# EAGLE library part 418217270904 (library Wurth_Elektronik_Electromechanic_Switch_rev17b)
WS-RA 2.54 mm right angled compact THT Dip Switch with raised actuator, 4 Pole
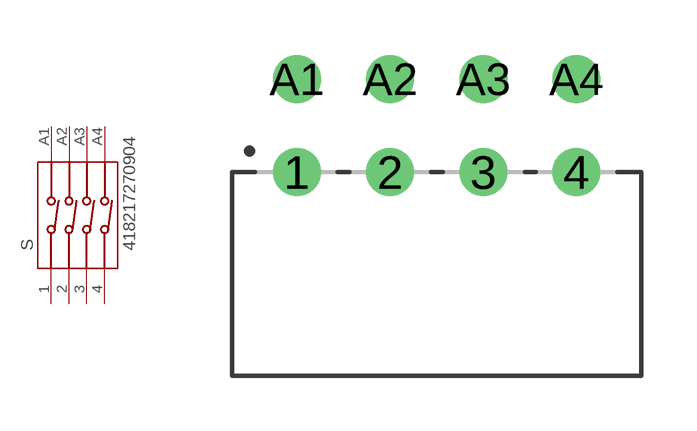
[diagram p51: symbol with the pads of 418217270904; footprint 418217270904]

Designator prefix S

## 418217270904  [418217270904]
1  1  pas
2  2  pas
3  3  pas
4  4  pas
A1  A1  pas
A2  A2  pas
A3  A3  pas
A4  A4  pas

## Footprint 418217270904 (pad centres in mm)
WS-RA 2.54 mm right angled compact THT Dip Switch with raised actuator, 4 Pole
drill 0.8: 1 -3.81,-1.27; 2 -1.27,-1.27; 3 1.27,-1.27; 4 3.81,-1.27; A1 -3.81,1.27; A2 -1.27,1.27; A3 1.27,1.27; A4 3.81,1.27